# EAGLE library part 1X07 (library CougsInSpace-Connectors)
Generic Connector - 7 Conductor
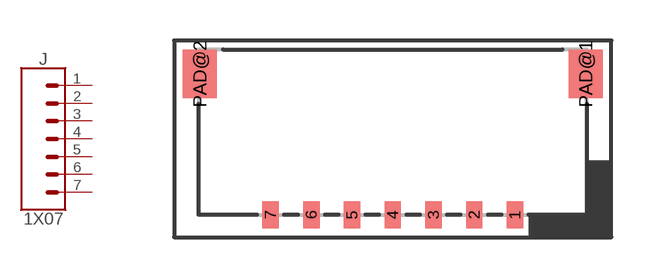
[diagram p4: symbol with the pads of PICOLOCK1.5-07; footprint PICOLOCK1.5-07]

Designator prefix J

## 1X07-PICOLOCK (PACKAGE: PicoLock; SKU: 04-0007)  [PICOLOCK1.5-07]
1  1  pas
2  2  pas
3  3  pas
4  4  pas
5  5  pas
6  6  pas
7  7  pas

## Footprint PICOLOCK1.5-07 (pad centres in mm)
PicoLock 1.5mm - 7 Conductor
smd 0.6 x 1: 1 4.5,0; 2 3,0; 3 1.5,0; 4 0,0; 5 -1.5,0; 6 -3,0; 7 -4.5,0
smd 1.25 x 1.8: PAD@1 7.105,5.2; PAD@2 -7.105,5.2